# EAGLE library part TL1963A (library NEWPARTS)
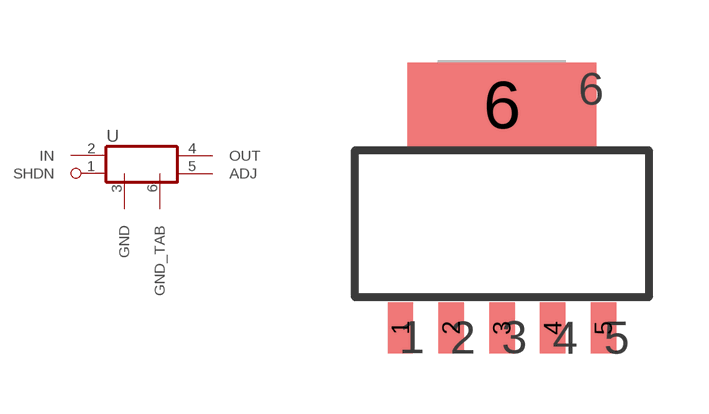
[diagram p11: symbol with the pads of SOT223-6; footprint SOT223-6]

Designator prefix -

## TL1963A  [SOT223-6]
1  SHDN  nc
2  IN  nc
3  GND  nc
4  OUT  nc
5  ADJ  nc
6  GND_TAB  nc

## Footprint SOT223-6 (pad centres in mm)
smd 0.635 x 1.27: 1 -2.54,-3.048; 2 -1.27,-3.048; 3 0,-3.048; 4 1.27,-3.048; 5 2.54,-3.048
smd 4.724 x 2.108: 6 0,2.54